# Altium schematic symbol library FT4232HQ.SchLib: 1 symbol
Pins are listed as number, name and electrical type; pins without a type are passive.

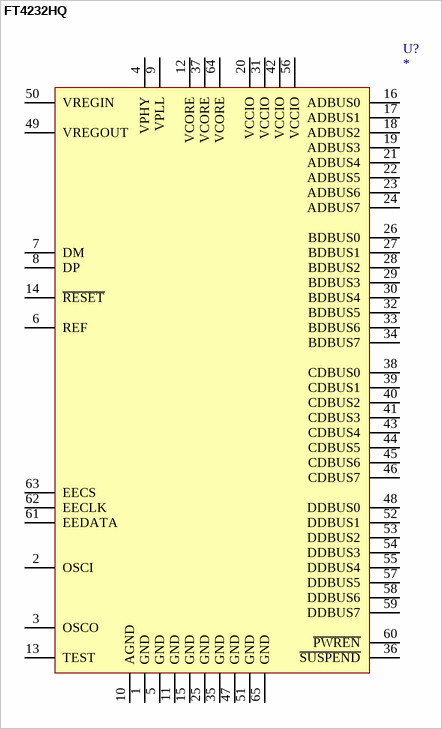
[diagram p0: symbol FT4232HQ]

## FT4232HQ
designator U?
pins: 1 GND, 2 OSCI, 3 OSCO, 4 VPHY, 5 GND, 6 REF, 7 DM, 8 DP, 9 VPLL, 10 AGND, 11 GND, 12 VCORE, 13 TEST, 14 ~{RESET}, 15 GND, 16 ADBUS0, 17 ADBUS1, 18 ADBUS2, 19 ADBUS3, 20 VCCIO, 21 ADBUS4, 22 ADBUS5, 23 ADBUS6, 24 ADBUS7, 25 GND, 26 BDBUS0, 27 BDBUS1, 28 BDBUS2, 29 BDBUS3, 30 BDBUS4, 31 VCCIO, 32 BDBUS5, 33 BDBUS6, 34 BDBUS7, 35 GND, 36 ~{SUSPEND}, 37 VCORE, 38 CDBUS0, 39 CDBUS1, 40 CDBUS2, 41 CDBUS3, 42 VCCIO, 43 CDBUS4, 44 CDBUS5, 45 CDBUS6, 46 CDBUS7, 47 GND, 48 DDBUS0, 49 VREGOUT, 50 VREGIN, 51 GND, 52 DDBUS1, 53 DDBUS2, 54 DDBUS3, 55 DDBUS4, 56 VCCIO, 57 DDBUS5, 58 DDBUS6, 59 DDBUS7, 60 ~{PWREN}, 61 EEDATA, 62 EECLK, 63 EECS, 64 VCORE, 65 GND